# EAGLE library part 645008114822 (library Wire-to-Board (rev18a))
WR-WTB 3.96mm Male Locking Header, 8 Pins=>Code : Con_WTB_3.96_PCB_THT_645008114822 <http://katalog.we-online.de/media/thumbs2/eican/thb_Con_WTB_3.96_PCB_THT_6450xx114822_pf2.jpg> Details see: http://katalog.we-online.de/en/em/WTB_3_96_MALE_LOCKING_HEADER_6450XX114822 Created 2014-06-05, Karrer Zheng 2014 (C) Würth Elektronik
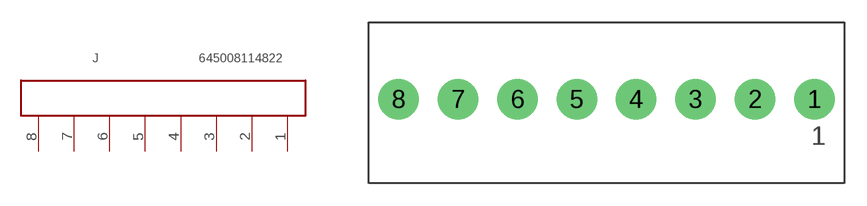
[diagram p1: symbol with the pads of 645008114822; footprint 645008114822]

Designator prefix J

## 645008114822  [645008114822]
1  1  pas
2  2  pas
3  3  pas
4  4  pas
5  5  pas
6  6  pas
7  7  pas
8  8  pas

## Footprint 645008114822 (pad centres in mm)
WR-WTB 3.96mm Male Locking Header, 8 Pins
drill 1.8: 1 13.86,0; 2 9.9,0; 3 5.94,0; 4 1.98,0; 5 -1.98,0; 6 -5.94,0; 7 -9.9,0; 8 -13.86,0